# Altium schematic symbol library Capacitors$.SchLib: 601 symbols (part 1 of 4)
Pins are listed as number, name and electrical type; pins without a type are passive.

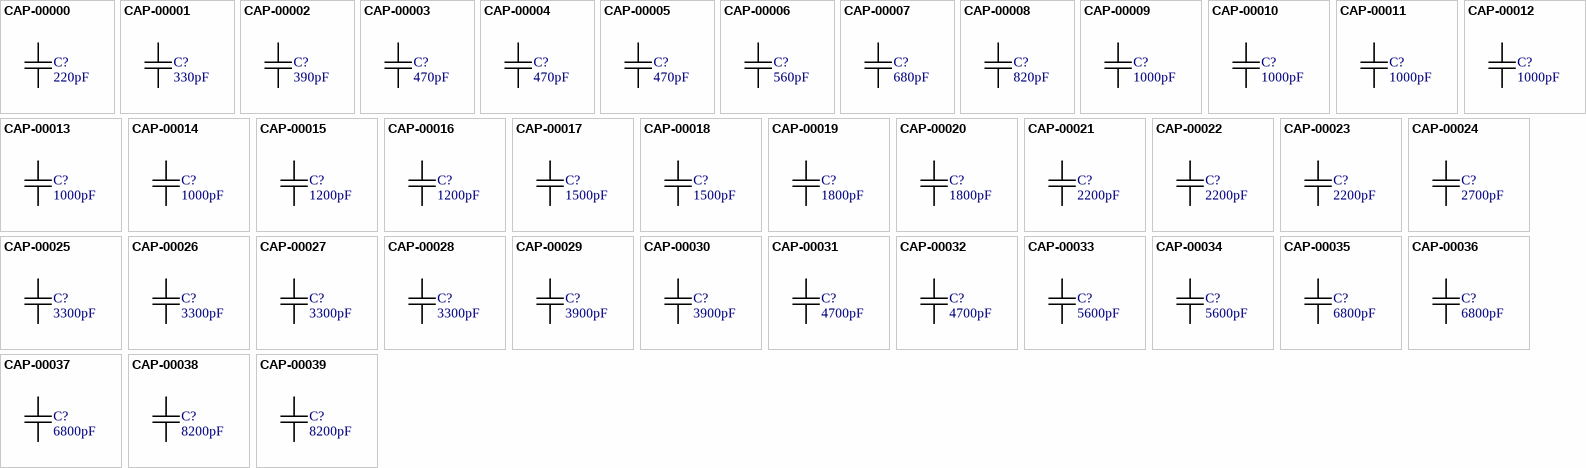
[diagram p0: symbols CAP-00000 to CAP-00039]

## CAP-00000
designator C?, comment 220pF
CAP, 220pF, 10%, 50V, X7R, 0805; Part Number: CAP-00000; Manufacturer: Murata; Manufacturer PN: GRM216R71H221KA01D; Capacitance: 220pF; Tolerance: 10%; Voltage Rating: 50V; Type: X7R
footprint chip_0805
pins: 1, 2

## CAP-00001
designator C?, comment 330pF
CAP, 330pF, 10%, 50V, X7R, 0805; Part Number: CAP-00001; Manufacturer: Murata; Manufacturer PN: GRM216R71H331KA01D; Capacitance: 330pF; Tolerance: 10%; Voltage Rating: 50V; Type: X7R
footprint chip_0805
pins: 1, 2

## CAP-00002
designator C?, comment 390pF
CAP, 390pF, 10%, 50V, X7R, 0805; Part Number: CAP-00002; Manufacturer: Murata; Manufacturer PN: GRM216R71H391KA01D; Capacitance: 390pF; Tolerance: 10%; Voltage Rating: 50V; Type: X7R
footprint chip_0805
pins: 1, 2

## CAP-00003
designator C?, comment 470pF
CAP, 470pF, 10%, 50V, X7R, 0805; Part Number: CAP-00003; Manufacturer: Murata; Manufacturer PN: GRM216R71H471KA01D; Capacitance: 470pF; Tolerance: 10%; Voltage Rating: 50V; Type: X7R
footprint chip_0805
pins: 1, 2

## CAP-00004
designator C?, comment 470pF
CAP, 470pF, 10%, 25V, X7R, 0805; Part Number: CAP-00004; Manufacturer: Murata; Manufacturer PN: GRM216R71E471KA01D; Capacitance: 470pF; Tolerance: 10%; Voltage Rating: 25V; Type: X7R
footprint chip_0805
pins: 1, 2

## CAP-00005
designator C?, comment 470pF
CAP, 470pF, 10%, 50V, X7R, 0805; Part Number: CAP-00005; Manufacturer: Murata; Manufacturer PN: GRM216R71H471KA01J; Capacitance: 470pF; Tolerance: 10%; Voltage Rating: 50V; Type: X7R
footprint chip_0805
pins: 1, 2

## CAP-00006
designator C?, comment 560pF
CAP, 560pF, 10%, 50V, X7R, 0805; Part Number: CAP-00006; Manufacturer: Murata; Manufacturer PN: GRM216R71H561KA01D; Capacitance: 560pF; Tolerance: 10%; Voltage Rating: 50V; Type: X7R
footprint chip_0805
pins: 1, 2

## CAP-00007
designator C?, comment 680pF
CAP, 680pF, 10%, 50V, X7R, 0805; Part Number: CAP-00007; Manufacturer: Murata; Manufacturer PN: GRM216R71H681KA01D; Capacitance: 680pF; Tolerance: 10%; Voltage Rating: 50V; Type: X7R
footprint chip_0805
pins: 1, 2

## CAP-00008
designator C?, comment 820pF
CAP, 820pF, 10%, 50V, X7R, 0805; Part Number: CAP-00008; Manufacturer: Murata; Manufacturer PN: GRM216R71H821KA01D; Capacitance: 820pF; Tolerance: 10%; Voltage Rating: 50V; Type: X7R
footprint chip_0805
pins: 1, 2

## CAP-00009
designator C?, comment 1000pF
CAP, 1000pF, 10%, 50V, X7R, 0805; Part Number: CAP-00009; Manufacturer: Murata; Manufacturer PN: GRM216R71H102KA01D; Capacitance: 1000pF; Tolerance: 10%; Voltage Rating: 50V; Type: X7R
footprint chip_0805
pins: 1, 2

## CAP-00010
designator C?, comment 1000pF
CAP, 1000pF, 10%, 100V, X7R, 0805; Part Number: CAP-00010; Manufacturer: Murata; Manufacturer PN: GRM219R72A102KA01D; Capacitance: 1000pF; Tolerance: 10%; Voltage Rating: 100V; Type: X7R
footprint chip_0805
pins: 1, 2

## CAP-00011
designator C?, comment 1000pF
CAP, 1000pF, 10%, 100V, X7R, 0805; Part Number: CAP-00011; Manufacturer: Murata; Manufacturer PN: GRM219R72A102KA01J; Capacitance: 1000pF; Tolerance: 10%; Voltage Rating: 100V; Type: X7R
footprint chip_0805
pins: 1, 2

## CAP-00012
designator C?, comment 1000pF
CAP, 1000pF, 10%, 25V, X7R, 0805; Part Number: CAP-00012; Manufacturer: Murata; Manufacturer PN: GRM216R71E102KA01D; Capacitance: 1000pF; Tolerance: 10%; Voltage Rating: 25V; Type: X7R
footprint chip_0805
pins: 1, 2

## CAP-00013
designator C?, comment 1000pF
CAP, 1000pF, 10%, 50V, X7R, 0805; Part Number: CAP-00013; Manufacturer: Murata; Manufacturer PN: GRM216R71H102KA01J; Capacitance: 1000pF; Tolerance: 10%; Voltage Rating: 50V; Type: X7R
footprint chip_0805
pins: 1, 2

## CAP-00014
designator C?, comment 1000pF
CAP, 1000pF, 10%, 250V, X7R, 0805; Part Number: CAP-00014; Manufacturer: Murata; Manufacturer PN: GRM21AR72E102KW01D; Capacitance: 1000pF; Tolerance: 10%; Voltage Rating: 250V; Type: X7R
footprint chip_0805
pins: 1, 2

## CAP-00015
designator C?, comment 1200pF
CAP, 1200pF, 10%, 25V, X7R, 0805; Part Number: CAP-00015; Manufacturer: Murata; Manufacturer PN: GRM216R71E122KA01D; Capacitance: 1200pF; Tolerance: 10%; Voltage Rating: 25V; Type: X7R
footprint chip_0805
pins: 1, 2

## CAP-00016
designator C?, comment 1200pF
CAP, 1200pF, 10%, 50V, X7R, 0805; Part Number: CAP-00016; Manufacturer: Murata; Manufacturer PN: GRM216R71H122KA01D; Capacitance: 1200pF; Tolerance: 10%; Voltage Rating: 50V; Type: X7R
footprint chip_0805
pins: 1, 2

## CAP-00017
designator C?, comment 1500pF
CAP, 1500pF, 10%, 250V, X7R, 0805; Part Number: CAP-00017; Manufacturer: Murata; Manufacturer PN: GRM21AR72E152KW01D; Capacitance: 1500pF; Tolerance: 10%; Voltage Rating: 250V; Type: X7R
footprint chip_0805
pins: 1, 2

## CAP-00018
designator C?, comment 1500pF
CAP, 1500pF, 10%, 50V, X7R, 0805; Part Number: CAP-00018; Manufacturer: Murata; Manufacturer PN: GRM216R71H152KA01D; Capacitance: 1500pF; Tolerance: 10%; Voltage Rating: 50V; Type: X7R
footprint chip_0805
pins: 1, 2

## CAP-00019
designator C?, comment 1800pF
CAP, 1800pF, 10%, 25V, X7R, 0805; Part Number: CAP-00019; Manufacturer: Murata; Manufacturer PN: GRM216R71E182KA01D; Capacitance: 1800pF; Tolerance: 10%; Voltage Rating: 25V; Type: X7R
footprint chip_0805
pins: 1, 2

## CAP-00020
designator C?, comment 1800pF
CAP, 1800pF, 10%, 50V, X7R, 0805; Part Number: CAP-00020; Manufacturer: Murata; Manufacturer PN: GRM216R71H182KA01D; Capacitance: 1800pF; Tolerance: 10%; Voltage Rating: 50V; Type: X7R
footprint chip_0805
pins: 1, 2

## CAP-00021
designator C?, comment 2200pF
CAP, 2200pF, 10%, 50V, X7R, 0805; Part Number: CAP-00021; Manufacturer: Murata; Manufacturer PN: GRM216R71H222KA01D; Capacitance: 2200pF; Tolerance: 10%; Voltage Rating: 50V; Type: X7R
footprint chip_0805
pins: 1, 2

## CAP-00022
designator C?, comment 2200pF
CAP, 2200pF, 10%, 250V, X7R, 0805; Part Number: CAP-00022; Manufacturer: Murata; Manufacturer PN: GRM21AR72E222KW01D; Capacitance: 2200pF; Tolerance: 10%; Voltage Rating: 250V; Type: X7R
footprint chip_0805
pins: 1, 2

## CAP-00023
designator C?, comment 2200pF
CAP, 2200pF, 10%, 100V, X7R, 0805; Part Number: CAP-00023; Manufacturer: Murata; Manufacturer PN: GRM219R72A222KA01D; Capacitance: 2200pF; Tolerance: 10%; Voltage Rating: 100V; Type: X7R
footprint chip_0805
pins: 1, 2

## CAP-00024
designator C?, comment 2700pF
CAP, 2700pF, 10%, 50V, X7R, 0805; Part Number: CAP-00024; Manufacturer: Murata; Manufacturer PN: GRM216R71H272KA01D; Capacitance: 2700pF; Tolerance: 10%; Voltage Rating: 50V; Type: X7R
footprint chip_0805
pins: 1, 2

## CAP-00025
designator C?, comment 3300pF
CAP, 3300pF, 10%, 250V, X7R, 0805; Part Number: CAP-00025; Manufacturer: Murata; Manufacturer PN: GRM21AR72E332KW01D; Capacitance: 3300pF; Tolerance: 10%; Voltage Rating: 250V; Type: X7R
footprint chip_0805
pins: 1, 2

## CAP-00026
designator C?, comment 3300pF
CAP, 3300pF, 10%, 100V, X7R, 0805; Part Number: CAP-00026; Manufacturer: Murata; Manufacturer PN: GRM219R72A332KA01D; Capacitance: 3300pF; Tolerance: 10%; Voltage Rating: 100V; Type: X7R
footprint chip_0805
pins: 1, 2

## CAP-00027
designator C?, comment 3300pF
CAP, 3300pF, 10%, 25V, X7R, 0805; Part Number: CAP-00027; Manufacturer: Murata; Manufacturer PN: GRM216R71E332KA01D; Capacitance: 3300pF; Tolerance: 10%; Voltage Rating: 25V; Type: X7R
footprint chip_0805
pins: 1, 2

## CAP-00028
designator C?, comment 3300pF
CAP, 3300pF, 10%, 50V, X7R, 0805; Part Number: CAP-00028; Manufacturer: Murata; Manufacturer PN: GRM216R71H332KA01D; Capacitance: 3300pF; Tolerance: 10%; Voltage Rating: 50V; Type: X7R
footprint chip_0805
pins: 1, 2

## CAP-00029
designator C?, comment 3900pF
CAP, 3900pF, 10%, 100V, X7R, 0805; Part Number: CAP-00029; Manufacturer: Murata; Manufacturer PN: GRM219R72A392KA01D; Capacitance: 3900pF; Tolerance: 10%; Voltage Rating: 100V; Type: X7R
footprint chip_0805
pins: 1, 2

## CAP-00030
designator C?, comment 3900pF
CAP, 3900pF, 10%, 50V, X7R, 0805; Part Number: CAP-00030; Manufacturer: Murata; Manufacturer PN: GRM216R71H392KA01D; Capacitance: 3900pF; Tolerance: 10%; Voltage Rating: 50V; Type: X7R
footprint chip_0805
pins: 1, 2

## CAP-00031
designator C?, comment 4700pF
CAP, 4700pF, 10%, 250V, X7R, 0805; Part Number: CAP-00031; Manufacturer: Murata; Manufacturer PN: GRM21AR72E472KW01D; Capacitance: 4700pF; Tolerance: 10%; Voltage Rating: 250V; Type: X7R
footprint chip_0805
pins: 1, 2

## CAP-00032
designator C?, comment 4700pF
CAP, 4700pF, 10%, 100V, X7R, 0805; Part Number: CAP-00032; Manufacturer: Murata; Manufacturer PN: GRM219R72A472KA01D; Capacitance: 4700pF; Tolerance: 10%; Voltage Rating: 100V; Type: X7R
footprint chip_0805
pins: 1, 2

## CAP-00033
designator C?, comment 5600pF
CAP, 5600pF, 10%, 50V, X7R, 0805; Part Number: CAP-00033; Manufacturer: Murata; Manufacturer PN: GRM216R71H562KA01D; Capacitance: 5600pF; Tolerance: 10%; Voltage Rating: 50V; Type: X7R
footprint chip_0805
pins: 1, 2

## CAP-00034
designator C?, comment 5600pF
CAP, 5600pF, 10%, 100V, X7R, 0805; Part Number: CAP-00034; Manufacturer: Murata; Manufacturer PN: GRM219R72A562KA01D; Capacitance: 5600pF; Tolerance: 10%; Voltage Rating: 100V; Type: X7R
footprint chip_0805
pins: 1, 2

## CAP-00035
designator C?, comment 6800pF
CAP, 6800pF, 10%, 50V, X7R, 0805; Part Number: CAP-00035; Manufacturer: Murata; Manufacturer PN: GRM216R71H682KA01D; Capacitance: 6800pF; Tolerance: 10%; Voltage Rating: 50V; Type: X7R
footprint chip_0805
pins: 1, 2

## CAP-00036
designator C?, comment 6800pF
CAP, 6800pF, 10%, 100V, X7R, 0805; Part Number: CAP-00036; Manufacturer: Murata; Manufacturer PN: GRM219R72A682KA01D; Capacitance: 6800pF; Tolerance: 10%; Voltage Rating: 100V; Type: X7R
footprint chip_0805
pins: 1, 2

## CAP-00037
designator C?, comment 6800pF
CAP, 6800pF, 10%, 250V, X7R, 0805; Part Number: CAP-00037; Manufacturer: Murata; Manufacturer PN: GRM21AR72E682KW01D; Capacitance: 6800pF; Tolerance: 10%; Voltage Rating: 250V; Type: X7R
footprint chip_0805
pins: 1, 2

## CAP-00038
designator C?, comment 8200pF
CAP, 8200pF, 10%, 100V, X7R, 0805; Part Number: CAP-00038; Manufacturer: Murata; Manufacturer PN: GRM21BR72A822KA01L; Capacitance: 8200pF; Tolerance: 10%; Voltage Rating: 100V; Type: X7R
footprint chip_0805
pins: 1, 2

## CAP-00039
designator C?, comment 8200pF
CAP, 8200pF, 10%, 50V, X7R, 0805; Part Number: CAP-00039; Manufacturer: Murata; Manufacturer PN: GRM216R71H822KA01D; Capacitance: 8200pF; Tolerance: 10%; Voltage Rating: 50V; Type: X7R
footprint chip_0805
pins: 1, 2

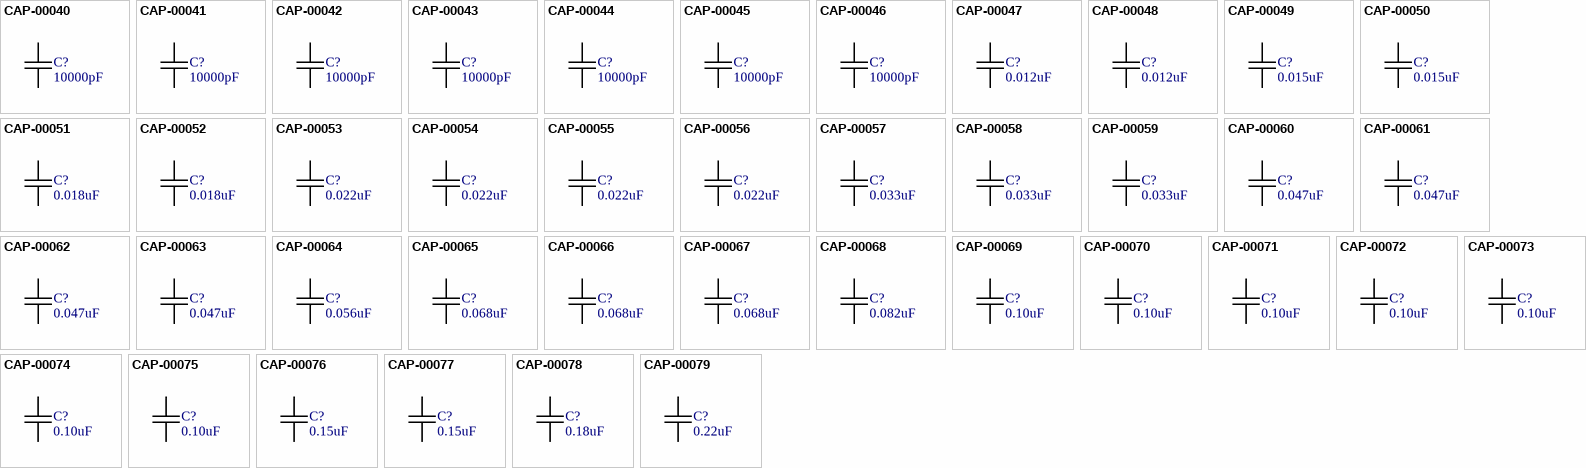
[diagram p1: symbols CAP-00040 to CAP-00079]

## CAP-00040
designator C?, comment 10000pF
CAP, 10000pF, 10%, 50V, X7R, 0805; Part Number: CAP-00040; Manufacturer: Murata; Manufacturer PN: GRM216R71H103KA01D; Capacitance: 10000pF; Tolerance: 10%; Voltage Rating: 50V; Type: X7R
footprint chip_0805
pins: 1, 2

## CAP-00041
designator C?, comment 10000pF
CAP, 10000pF, 10%, 250V, X7R, 0805; Part Number: CAP-00041; Manufacturer: Murata; Manufacturer PN: GRM21BR72E103KW03L; Capacitance: 10000pF; Tolerance: 10%; Voltage Rating: 250V; Type: X7R
footprint chip_0805
pins: 1, 2

## CAP-00042
designator C?, comment 10000pF
CAP, 10000pF, 10%, 100V, X7R, 0805; Part Number: CAP-00042; Manufacturer: Murata; Manufacturer PN: GRM21BR72A103KA01L; Capacitance: 10000pF; Tolerance: 10%; Voltage Rating: 100V; Type: X7R
footprint chip_0805
pins: 1, 2

## CAP-00043
designator C?, comment 10000pF
CAP, 10000pF, 10%, 100V, X7R, 0805; Part Number: CAP-00043; Manufacturer: Murata; Manufacturer PN: GRM21BR72A103KA01K; Capacitance: 10000pF; Tolerance: 10%; Voltage Rating: 100V; Type: X7R
footprint chip_0805
pins: 1, 2

## CAP-00044
designator C?, comment 10000pF
CAP, 10000pF, 10%, 50V, X7R, 0805; Part Number: CAP-00044; Manufacturer: Murata; Manufacturer PN: GRM216R71H103KA01J; Capacitance: 10000pF; Tolerance: 10%; Voltage Rating: 50V; Type: X7R
footprint chip_0805
pins: 1, 2

## CAP-00045
designator C?, comment 10000pF
CAP, 10000pF, 10%, 25V, X7R, 0805; Part Number: CAP-00045; Manufacturer: Murata; Manufacturer PN: GRM216R71E103KA01D; Capacitance: 10000pF; Tolerance: 10%; Voltage Rating: 25V; Type: X7R
footprint chip_0805
pins: 1, 2

## CAP-00046
designator C?, comment 10000pF
CAP, 10000pF, 10%, 200V, X7R, 0805; Part Number: CAP-00046; Manufacturer: Murata; Manufacturer PN: GRM21BR72D103KW03L; Capacitance: 10000pF; Tolerance: 10%; Voltage Rating: 200V; Type: X7R
footprint chip_0805
pins: 1, 2

## CAP-00047
designator C?, comment 0.012uF
CAP, 0.012uF, 10%, 100V, X7R, 0805; Part Number: CAP-00047; Manufacturer: Murata; Manufacturer PN: GRM21BR72A123KA01L; Capacitance: 0.012uF; Tolerance: 10%; Voltage Rating: 100V; Type: X7R
footprint chip_0805
pins: 1, 2

## CAP-00048
designator C?, comment 0.012uF
CAP, 0.012uF, 10%, 50V, X7R, 0805; Part Number: CAP-00048; Manufacturer: Murata; Manufacturer PN: GRM216R71H123KA01D; Capacitance: 0.012uF; Tolerance: 10%; Voltage Rating: 50V; Type: X7R
footprint chip_0805
pins: 1, 2

## CAP-00049
designator C?, comment 0.015uF
CAP, 0.015uF, 10%, 100V, X7R, 0805; Part Number: CAP-00049; Manufacturer: Murata; Manufacturer PN: GRM21BR72A153KA01L; Capacitance: 0.015uF; Tolerance: 10%; Voltage Rating: 100V; Type: X7R
footprint chip_0805
pins: 1, 2

## CAP-00050
designator C?, comment 0.015uF
CAP, 0.015uF, 10%, 50V, X7R, 0805; Part Number: CAP-00050; Manufacturer: Murata; Manufacturer PN: GRM216R71H153KA01D; Capacitance: 0.015uF; Tolerance: 10%; Voltage Rating: 50V; Type: X7R
footprint chip_0805
pins: 1, 2

## CAP-00051
designator C?, comment 0.018uF
CAP, 0.018uF, 10%, 100V, X7R, 0805; Part Number: CAP-00051; Manufacturer: Murata; Manufacturer PN: GRM21BR72A183KA01L; Capacitance: 0.018uF; Tolerance: 10%; Voltage Rating: 100V; Type: X7R
footprint chip_0805
pins: 1, 2

## CAP-00052
designator C?, comment 0.018uF
CAP, 0.018uF, 10%, 50V, X7R, 0805; Part Number: CAP-00052; Manufacturer: Murata; Manufacturer PN: GRM216R71H183KA01D; Capacitance: 0.018uF; Tolerance: 10%; Voltage Rating: 50V; Type: X7R
footprint chip_0805
pins: 1, 2

## CAP-00053
designator C?, comment 0.022uF
CAP, 0.022uF, 10%, 50V, X7R, 0805; Part Number: CAP-00053; Manufacturer: Murata; Manufacturer PN: GRM216R71H223KA01D; Capacitance: 0.022uF; Tolerance: 10%; Voltage Rating: 50V; Type: X7R
footprint chip_0805
pins: 1, 2

## CAP-00054
designator C?, comment 0.022uF
CAP, 0.022uF, 10%, 100V, X7R, 0805; Part Number: CAP-00054; Manufacturer: Murata; Manufacturer PN: GRM21BR72A223KA01L; Capacitance: 0.022uF; Tolerance: 10%; Voltage Rating: 100V; Type: X7R
footprint chip_0805
pins: 1, 2

## CAP-00055
designator C?, comment 0.022uF
CAP, 0.022uF, 10%, 50V, X7R, 0805; Part Number: CAP-00055; Manufacturer: Murata; Manufacturer PN: GRM216R71H223KA01J; Capacitance: 0.022uF; Tolerance: 10%; Voltage Rating: 50V; Type: X7R
footprint chip_0805
pins: 1, 2

## CAP-00056
designator C?, comment 0.022uF
CAP, 0.022uF, 10%, 25V, X7R, 0805; Part Number: CAP-00056; Manufacturer: Murata; Manufacturer PN: GRM216R71E223KA01D; Capacitance: 0.022uF; Tolerance: 10%; Voltage Rating: 25V; Type: X7R
footprint chip_0805
pins: 1, 2

## CAP-00057
designator C?, comment 0.033uF
CAP, 0.033uF, 10%, 25V, X7R, 0805; Part Number: CAP-00057; Manufacturer: Murata; Manufacturer PN: GRM216R71E333KA01D; Capacitance: 0.033uF; Tolerance: 10%; Voltage Rating: 25V; Type: X7R
footprint chip_0805
pins: 1, 2

## CAP-00058
designator C?, comment 0.033uF
CAP, 0.033uF, 10%, 50V, X7R, 0805; Part Number: CAP-00058; Manufacturer: Murata; Manufacturer PN: GRM219R71H333KA01D; Capacitance: 0.033uF; Tolerance: 10%; Voltage Rating: 50V; Type: X7R
footprint chip_0805
pins: 1, 2

## CAP-00059
designator C?, comment 0.033uF
CAP, 0.033uF, 10%, 100V, X7R, 0805; Part Number: CAP-00059; Manufacturer: Murata; Manufacturer PN: GRM21BR72A333KA01L; Capacitance: 0.033uF; Tolerance: 10%; Voltage Rating: 100V; Type: X7R
footprint chip_0805
pins: 1, 2

## CAP-00060
designator C?, comment 0.047uF
CAP, 0.047uF, 10%, 25V, X7R, 0805; Part Number: CAP-00060; Manufacturer: Murata; Manufacturer PN: GRM219R71E473KA01D; Capacitance: 0.047uF; Tolerance: 10%; Voltage Rating: 25V; Type: X7R
footprint chip_0805
pins: 1, 2

## CAP-00061
designator C?, comment 0.047uF
CAP, 0.047uF, 10%, 50V, X7R, 0805; Part Number: CAP-00061; Manufacturer: Murata; Manufacturer PN: GRM21BR71H473KA01L; Capacitance: 0.047uF; Tolerance: 10%; Voltage Rating: 50V; Type: X7R
footprint chip_0805
pins: 1, 2

## CAP-00062
designator C?, comment 0.047uF
CAP, 0.047uF, 10%, 100V, X7R, 0805; Part Number: CAP-00062; Manufacturer: Murata; Manufacturer PN: GRM21BR72A473KA01L; Capacitance: 0.047uF; Tolerance: 10%; Voltage Rating: 100V; Type: X7R
footprint chip_0805
pins: 1, 2

## CAP-00063
designator C?, comment 0.047uF
CAP, 0.047uF, 10%, 50V, X7R, 0805; Part Number: CAP-00063; Manufacturer: Murata; Manufacturer PN: GRM21BR71H473KA01K; Capacitance: 0.047uF; Tolerance: 10%; Voltage Rating: 50V; Type: X7R
footprint chip_0805
pins: 1, 2

## CAP-00064
designator C?, comment 0.056uF
CAP, 0.056uF, 10%, 50V, X7R, 0805; Part Number: CAP-00064; Manufacturer: Murata; Manufacturer PN: GRM21BR71H563KA01L; Capacitance: 0.056uF; Tolerance: 10%; Voltage Rating: 50V; Type: X7R
footprint chip_0805
pins: 1, 2

## CAP-00065
designator C?, comment 0.068uF
CAP, 0.068uF, 10%, 50V, X7R, 0805; Part Number: CAP-00065; Manufacturer: Murata; Manufacturer PN: GRM21BR71H683KA01L; Capacitance: 0.068uF; Tolerance: 10%; Voltage Rating: 50V; Type: X7R
footprint chip_0805
pins: 1, 2

## CAP-00066
designator C?, comment 0.068uF
CAP, 0.068uF, 10%, 16V, X7R, 0805; Part Number: CAP-00066; Manufacturer: Murata; Manufacturer PN: GRM219R71C683KA01D; Capacitance: 0.068uF; Tolerance: 10%; Voltage Rating: 16V; Type: X7R
footprint chip_0805
pins: 1, 2

## CAP-00067
designator C?, comment 0.068uF
CAP, 0.068uF, 10%, 25V, X7R, 0805; Part Number: CAP-00067; Manufacturer: Murata; Manufacturer PN: GRM219R71E683KA01D; Capacitance: 0.068uF; Tolerance: 10%; Voltage Rating: 25V; Type: X7R
footprint chip_0805
pins: 1, 2

## CAP-00068
designator C?, comment 0.082uF
CAP, 0.082uF, 10%, 50V, X7R, 0805; Part Number: CAP-00068; Manufacturer: Murata; Manufacturer PN: GRM21BR71H823KA01L; Capacitance: 0.082uF; Tolerance: 10%; Voltage Rating: 50V; Type: X7R
footprint chip_0805
pins: 1, 2

## CAP-00069
designator C?, comment 0.10uF
CAP, 0.10uF, 10%, 16V, X7R, 0805; Part Number: CAP-00069; Manufacturer: Murata; Manufacturer PN: GRM219R71C104KA01D; Capacitance: 0.10uF; Tolerance: 10%; Voltage Rating: 16V; Type: X7R
footprint chip_0805
pins: 1, 2

## CAP-00070
designator C?, comment 0.10uF
CAP, 0.10uF, 10%, 50V, X7R, 0805; Part Number: CAP-00070; Manufacturer: Murata; Manufacturer PN: GRM21BR71H104KA01L; Capacitance: 0.10uF; Tolerance: 10%; Voltage Rating: 50V; Type: X7R
footprint chip_0805
pins: 1, 2

## CAP-00071
designator C?, comment 0.10uF
CAP, 0.10uF, 10%, 25V, X7R, 0805; Part Number: CAP-00071; Manufacturer: Murata; Manufacturer PN: GRM21BR71E104KA01L; Capacitance: 0.10uF; Tolerance: 10%; Voltage Rating: 25V; Type: X7R
footprint chip_0805
pins: 1, 2

## CAP-00072
designator C?, comment 0.10uF
CAP, 0.10uF, 10%, 50V, X7R, 0805; Part Number: CAP-00072; Manufacturer: Murata; Manufacturer PN: GRM21BR71H104KA01K; Capacitance: 0.10uF; Tolerance: 10%; Voltage Rating: 50V; Type: X7R
footprint chip_0805
pins: 1, 2

## CAP-00073
designator C?, comment 0.10uF
CAP, 0.10uF, 10%, 100V, X7R, 0805; Part Number: CAP-00073; Manufacturer: Murata; Manufacturer PN: GRM21BR72A104KAC4L; Capacitance: 0.10uF; Tolerance: 10%; Voltage Rating: 100V; Type: X7R
footprint chip_0805
pins: 1, 2

## CAP-00074
designator C?, comment 0.10uF
CAP, 0.10uF, 10%, 25V, X7R, 0805; Part Number: CAP-00074; Manufacturer: Murata; Manufacturer PN: GRM21BR71E104KA01K; Capacitance: 0.10uF; Tolerance: 10%; Voltage Rating: 25V; Type: X7R
footprint chip_0805
pins: 1, 2

## CAP-00075
designator C?, comment 0.10uF
CAP, 0.10uF, 10%, 25V, X7R, 0805; Part Number: CAP-00075; Manufacturer: Murata; Manufacturer PN: GRM219R71E104KA01D; Capacitance: 0.10uF; Tolerance: 10%; Voltage Rating: 25V; Type: X7R
footprint chip_0805
pins: 1, 2

## CAP-00076
designator C?, comment 0.15uF
CAP, 0.15uF, 10%, 25V, X7R, 0805; Part Number: CAP-00076; Manufacturer: Murata; Manufacturer PN: GRM21BR71E154KA01L; Capacitance: 0.15uF; Tolerance: 10%; Voltage Rating: 25V; Type: X7R
footprint chip_0805
pins: 1, 2

## CAP-00077
designator C?, comment 0.15uF
CAP, 0.15uF, 10%, 50V, X7R, 0805; Part Number: CAP-00077; Manufacturer: Murata; Manufacturer PN: GRM21BR71H154KA01L; Capacitance: 0.15uF; Tolerance: 10%; Voltage Rating: 50V; Type: X7R
footprint chip_0805
pins: 1, 2

## CAP-00078
designator C?, comment 0.18uF
CAP, 0.18uF, 10%, 50V, X7R, 0805; Part Number: CAP-00078; Manufacturer: Murata; Manufacturer PN: GRM21BR71H184KA01L; Capacitance: 0.18uF; Tolerance: 10%; Voltage Rating: 50V; Type: X7R
footprint chip_0805
pins: 1, 2

## CAP-00079
designator C?, comment 0.22uF
CAP, 0.22uF, 10%, 50V, X7R, 0805; Part Number: CAP-00079; Manufacturer: Murata; Manufacturer PN: GRM21BR71H224KA01L; Capacitance: 0.22uF; Tolerance: 10%; Voltage Rating: 50V; Type: X7R
footprint chip_0805
pins: 1, 2

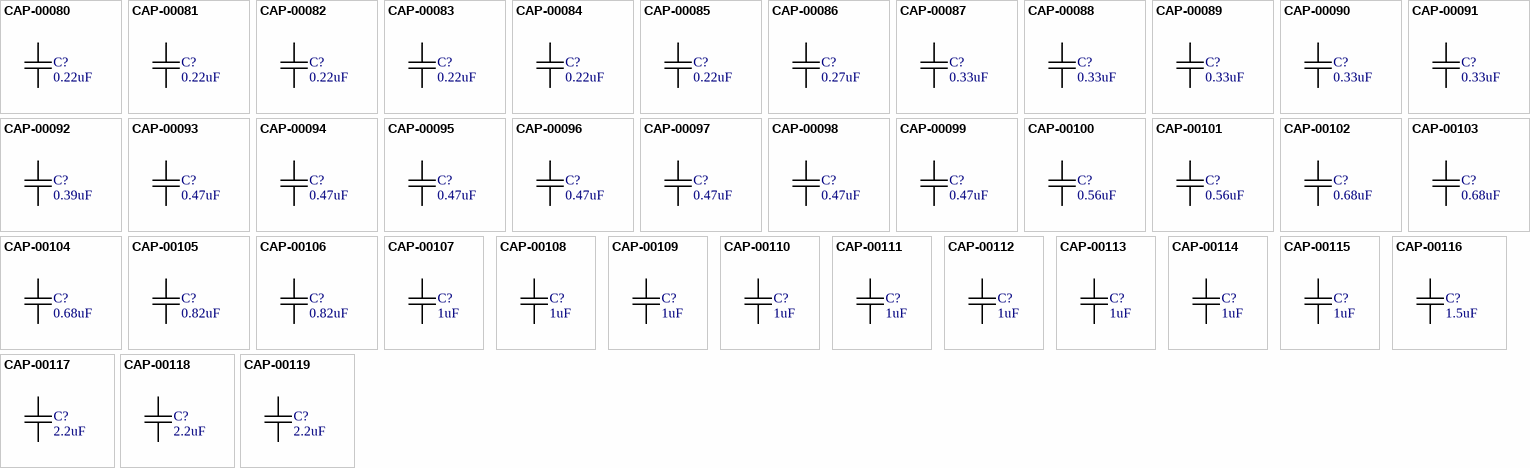
[diagram p2: symbols CAP-00080 to CAP-00119]

## CAP-00080
designator C?, comment 0.22uF
CAP, 0.22uF, 10%, 100V, X7R, 0805; Part Number: CAP-00080; Manufacturer: Murata; Manufacturer PN: GRM21AR72A224KAC5K; Capacitance: 0.22uF; Tolerance: 10%; Voltage Rating: 100V; Type: X7R
footprint chip_0805
pins: 1, 2

## CAP-00081
designator C?, comment 0.22uF
CAP, 0.22uF, 10%, 16V, X7R, 0805; Part Number: CAP-00081; Manufacturer: Murata; Manufacturer PN: GRM219R71C224KA01D; Capacitance: 0.22uF; Tolerance: 10%; Voltage Rating: 16V; Type: X7R
footprint chip_0805
pins: 1, 2

## CAP-00082
designator C?, comment 0.22uF
CAP, 0.22uF, 10%, 25V, X7R, 0805; Part Number: CAP-00082; Manufacturer: Murata; Manufacturer PN: GRM219R71E224KA01D; Capacitance: 0.22uF; Tolerance: 10%; Voltage Rating: 25V; Type: X7R
footprint chip_0805
pins: 1, 2

## CAP-00083
designator C?, comment 0.22uF
CAP, 0.22uF, 10%, 100V, X7R, 0805; Part Number: CAP-00083; Manufacturer: Murata; Manufacturer PN: GRM21AR72A224KAC5L; Capacitance: 0.22uF; Tolerance: 10%; Voltage Rating: 100V; Type: X7R
footprint chip_0805
pins: 1, 2

## CAP-00084
designator C?, comment 0.22uF
CAP, 0.22uF, 10%, 25V, X7R, 0805; Part Number: CAP-00084; Manufacturer: Murata; Manufacturer PN: GRM21BR71E224KA01L; Capacitance: 0.22uF; Tolerance: 10%; Voltage Rating: 25V; Type: X7R
footprint chip_0805
pins: 1, 2

## CAP-00085
designator C?, comment 0.22uF
CAP, 0.22uF, 10%, 50V, X7R, 0805; Part Number: CAP-00085; Manufacturer: Murata; Manufacturer PN: GRM21BR71H224KA01K; Capacitance: 0.22uF; Tolerance: 10%; Voltage Rating: 50V; Type: X7R
footprint chip_0805
pins: 1, 2

## CAP-00086
designator C?, comment 0.27uF
CAP, 0.27uF, 10%, 25V, X7R, 0805; Part Number: CAP-00086; Manufacturer: Murata; Manufacturer PN: GRM219R71E274KA01D; Capacitance: 0.27uF; Tolerance: 10%; Voltage Rating: 25V; Type: X7R
footprint chip_0805
pins: 1, 2

## CAP-00087
designator C?, comment 0.33uF
CAP, 0.33uF, 10%, 50V, X7R, 0805; Part Number: CAP-00087; Manufacturer: Murata; Manufacturer PN: GRM219R71H334KA88D; Capacitance: 0.33uF; Tolerance: 10%; Voltage Rating: 50V; Type: X7R
footprint chip_0805
pins: 1, 2

## CAP-00088
designator C?, comment 0.33uF
CAP, 0.33uF, 10%, 25V, X7R, 0805; Part Number: CAP-00088; Manufacturer: Murata; Manufacturer PN: GRM21BR71E334KA01L; Capacitance: 0.33uF; Tolerance: 10%; Voltage Rating: 25V; Type: X7R
footprint chip_0805
pins: 1, 2

## CAP-00089
designator C?, comment 0.33uF
CAP, 0.33uF, 10%, 100V, X7R, 0805; Part Number: CAP-00089; Manufacturer: Murata; Manufacturer PN: GRM21AR72A334KAC5L; Capacitance: 0.33uF; Tolerance: 10%; Voltage Rating: 100V; Type: X7R
footprint chip_0805
pins: 1, 2

## CAP-00090
designator C?, comment 0.33uF
CAP, 0.33uF, 10%, 16V, X7R, 0805; Part Number: CAP-00090; Manufacturer: Murata; Manufacturer PN: GRM21BR71C334KA01L; Capacitance: 0.33uF; Tolerance: 10%; Voltage Rating: 16V; Type: X7R
footprint chip_0805
pins: 1, 2

## CAP-00091
designator C?, comment 0.33uF
CAP, 0.33uF, 10%, 50V, X7R, 0805; Part Number: CAP-00091; Manufacturer: Murata; Manufacturer PN: GRM219R71H334KA88J; Capacitance: 0.33uF; Tolerance: 10%; Voltage Rating: 50V; Type: X7R
footprint chip_0805
pins: 1, 2

## CAP-00092
designator C?, comment 0.39uF
CAP, 0.39uF, 10%, 25V, X7R, 0805; Part Number: CAP-00092; Manufacturer: Murata; Manufacturer PN: GRM21BR71E394KA01L; Capacitance: 0.39uF; Tolerance: 10%; Voltage Rating: 25V; Type: X7R
footprint chip_0805
pins: 1, 2

## CAP-00093
designator C?, comment 0.47uF
CAP, 0.47uF, 10%, 50V, X7R, 0805; Part Number: CAP-00093; Manufacturer: Murata; Manufacturer PN: GRM21BR71H474KA88L; Capacitance: 0.47uF; Tolerance: 10%; Voltage Rating: 50V; Type: X7R
footprint chip_0805
pins: 1, 2

## CAP-00094
designator C?, comment 0.47uF
CAP, 0.47uF, 10%, 100V, X7R, 0805; Part Number: CAP-00094; Manufacturer: Murata; Manufacturer PN: GRM21BR72A474KA73L; Capacitance: 0.47uF; Tolerance: 10%; Voltage Rating: 100V; Type: X7R
footprint chip_0805
pins: 1, 2

## CAP-00095
designator C?, comment 0.47uF
CAP, 0.47uF, 10%, 25V, X7R, 0805; Part Number: CAP-00095; Manufacturer: Murata; Manufacturer PN: GRM219R71E474KA88D; Capacitance: 0.47uF; Tolerance: 10%; Voltage Rating: 25V; Type: X7R
footprint chip_0805
pins: 1, 2

## CAP-00096
designator C?, comment 0.47uF
CAP, 0.47uF, 10%, 16V, X7R, 0805; Part Number: CAP-00096; Manufacturer: Murata; Manufacturer PN: GRM219R71C474KA01D; Capacitance: 0.47uF; Tolerance: 10%; Voltage Rating: 16V; Type: X7R
footprint chip_0805
pins: 1, 2

## CAP-00097
designator C?, comment 0.47uF
CAP, 0.47uF, 10%, 16V, X7R, 0805; Part Number: CAP-00097; Manufacturer: Murata; Manufacturer PN: GRM21BR71C474KA01L; Capacitance: 0.47uF; Tolerance: 10%; Voltage Rating: 16V; Type: X7R
footprint chip_0805
pins: 1, 2

## CAP-00098
designator C?, comment 0.47uF
CAP, 0.47uF, 10%, 25V, X7R, 0805; Part Number: CAP-00098; Manufacturer: Murata; Manufacturer PN: GRM21BR71E474KA01L; Capacitance: 0.47uF; Tolerance: 10%; Voltage Rating: 25V; Type: X7R
footprint chip_0805
pins: 1, 2

## CAP-00099
designator C?, comment 0.47uF
CAP, 0.47uF, 10%, 25V, X7R, 0805; Part Number: CAP-00099; Manufacturer: Murata; Manufacturer PN: GRM21BR71E474KA01K; Capacitance: 0.47uF; Tolerance: 10%; Voltage Rating: 25V; Type: X7R
footprint chip_0805
pins: 1, 2

## CAP-00100
designator C?, comment 0.56uF
CAP, 0.56uF, 10%, 16V, X7R, 0805; Part Number: CAP-00100; Manufacturer: Murata; Manufacturer PN: GRM219R71C564KA01D; Capacitance: 0.56uF; Tolerance: 10%; Voltage Rating: 16V; Type: X7R
footprint chip_0805
pins: 1, 2

## CAP-00101
designator C?, comment 0.56uF
CAP, 0.56uF, 10%, 25V, X7R, 0805; Part Number: CAP-00101; Manufacturer: Murata; Manufacturer PN: GRM21BR71E564KA88L; Capacitance: 0.56uF; Tolerance: 10%; Voltage Rating: 25V; Type: X7R
footprint chip_0805
pins: 1, 2

## CAP-00102
designator C?, comment 0.68uF
CAP, 0.68uF, 10%, 16V, X7R, 0805; Part Number: CAP-00102; Manufacturer: Murata; Manufacturer PN: GRM219R71C684KA01D; Capacitance: 0.68uF; Tolerance: 10%; Voltage Rating: 16V; Type: X7R
footprint chip_0805
pins: 1, 2

## CAP-00103
designator C?, comment 0.68uF
CAP, 0.68uF, 10%, 25V, X7R, 0805; Part Number: CAP-00103; Manufacturer: Murata; Manufacturer PN: GRM219R71E684KA88D; Capacitance: 0.68uF; Tolerance: 10%; Voltage Rating: 25V; Type: X7R
footprint chip_0805
pins: 1, 2

## CAP-00104
designator C?, comment 0.68uF
CAP, 0.68uF, 10%, 25V, X7R, 0805; Part Number: CAP-00104; Manufacturer: Murata; Manufacturer PN: GRM21BR71E684KA88L; Capacitance: 0.68uF; Tolerance: 10%; Voltage Rating: 25V; Type: X7R
footprint chip_0805
pins: 1, 2

## CAP-00105
designator C?, comment 0.82uF
CAP, 0.82uF, 10%, 16V, X7R, 0805; Part Number: CAP-00105; Manufacturer: Murata; Manufacturer PN: GRM21BR71C824KA01L; Capacitance: 0.82uF; Tolerance: 10%; Voltage Rating: 16V; Type: X7R
footprint chip_0805
pins: 1, 2

## CAP-00106
designator C?, comment 0.82uF
CAP, 0.82uF, 10%, 25V, X7R, 0805; Part Number: CAP-00106; Manufacturer: Murata; Manufacturer PN: GRM219R71E824KA88D; Capacitance: 0.82uF; Tolerance: 10%; Voltage Rating: 25V; Type: X7R
footprint chip_0805
pins: 1, 2

## CAP-00107
designator C?, comment 1uF
CAP, 1uF, 10%, 16V, X7R, 0805; Part Number: CAP-00107; Manufacturer: Murata; Manufacturer PN: GRM21BR71C105KA01L; Capacitance: 1uF; Tolerance: 10%; Voltage Rating: 16V; Type: X7R
footprint chip_0805
pins: 1, 2

## CAP-00108
designator C?, comment 1uF
CAP, 1uF, 10%, 25V, X7R, 0805; Part Number: CAP-00108; Manufacturer: Murata; Manufacturer PN: GRM21BR71E105KA99L; Capacitance: 1uF; Tolerance: 10%; Voltage Rating: 25V; Type: X7R
footprint chip_0805
pins: 1, 2

## CAP-00109
designator C?, comment 1uF
CAP, 1uF, 10%, 50V, X7R, 0805; Part Number: CAP-00109; Manufacturer: Murata; Manufacturer PN: GRM21BR71H105KA12L; Capacitance: 1uF; Tolerance: 10%; Voltage Rating: 50V; Type: X7R
footprint chip_0805
pins: 1, 2

## CAP-00110
designator C?, comment 1uF
CAP, 1uF, 10%, 16V, X7R, 0805; Part Number: CAP-00110; Manufacturer: Murata; Manufacturer PN: GRM21BR71C105KA01K; Capacitance: 1uF; Tolerance: 10%; Voltage Rating: 16V; Type: X7R; Distributor Link: https://www.digikey.com/en/products/detail/murata-electronics/GRM21BR71C105KA01K/2546959
footprint chip_0805
pins: 1, 2

## CAP-00111
designator C?, comment 1uF
CAP, 1uF, 10%, 10V, X7R, 0805; Part Number: CAP-00111; Manufacturer: Murata; Manufacturer PN: GRM21BR71A105KA01L; Capacitance: 1uF; Tolerance: 10%; Voltage Rating: 10V; Type: X7R
footprint chip_0805
pins: 1, 2

## CAP-00112
designator C?, comment 1uF
CAP, 1uF, 10%, 25V, X7R, 0805; Part Number: CAP-00112; Manufacturer: Murata; Manufacturer PN: GRM21BR71E105KA99K; Capacitance: 1uF; Tolerance: 10%; Voltage Rating: 25V; Type: X7R
footprint chip_0805
pins: 1, 2

## CAP-00113
designator C?, comment 1uF
CAP, 1uF, 10%, 25V, X7R, 0805; Part Number: CAP-00113; Manufacturer: Murata; Manufacturer PN: GRM219R71E105KA88D; Capacitance: 1uF; Tolerance: 10%; Voltage Rating: 25V; Type: X7R
footprint chip_0805
pins: 1, 2

## CAP-00114
designator C?, comment 1uF
CAP, 1uF, 10%, 35V, X7R, 0805; Part Number: CAP-00114; Manufacturer: Murata; Manufacturer PN: GRM219R7YA105KA12D; Capacitance: 1uF; Tolerance: 10%; Voltage Rating: 35V; Type: X7R
footprint chip_0805
pins: 1, 2

## CAP-00115
designator C?, comment 1uF
CAP, 1uF, 10%, 10V, X7R, 0805; Part Number: CAP-00115; Manufacturer: Murata; Manufacturer PN: GRM21BR71A105KA01K; Capacitance: 1uF; Tolerance: 10%; Voltage Rating: 10V; Type: X7R
footprint chip_0805
pins: 1, 2

## CAP-00116
designator C?, comment 1.5uF
CAP, 1.5uF, 10%, 25V, X7R, 0805; Part Number: CAP-00116; Manufacturer: Murata; Manufacturer PN: GRM21BR71E155KA88L; Capacitance: 1.5uF; Tolerance: 10%; Voltage Rating: 25V; Type: X7R
footprint chip_0805
pins: 1, 2

## CAP-00117
designator C?, comment 2.2uF
CAP, 2.2uF, 10%, 16V, X7R, 0805; Part Number: CAP-00117; Manufacturer: Murata; Manufacturer PN: GRM21BR71C225KA12L; Capacitance: 2.2uF; Tolerance: 10%; Voltage Rating: 16V; Type: X7R
footprint chip_0805
pins: 1, 2

## CAP-00118
designator C?, comment 2.2uF
CAP, 2.2uF, 10%, 25V, X7R, 0805; Part Number: CAP-00118; Manufacturer: Murata; Manufacturer PN: GRM21BR71E225KA73L; Capacitance: 2.2uF; Tolerance: 10%; Voltage Rating: 25V; Type: X7R
footprint chip_0805
pins: 1, 2

## CAP-00119
designator C?, comment 2.2uF
CAP, 2.2uF, 10%, 10V, X7R, 0805; Part Number: CAP-00119; Manufacturer: Murata; Manufacturer PN: GRM21BR71A225KA01L; Capacitance: 2.2uF; Tolerance: 10%; Voltage Rating: 10V; Type: X7R
footprint chip_0805
pins: 1, 2

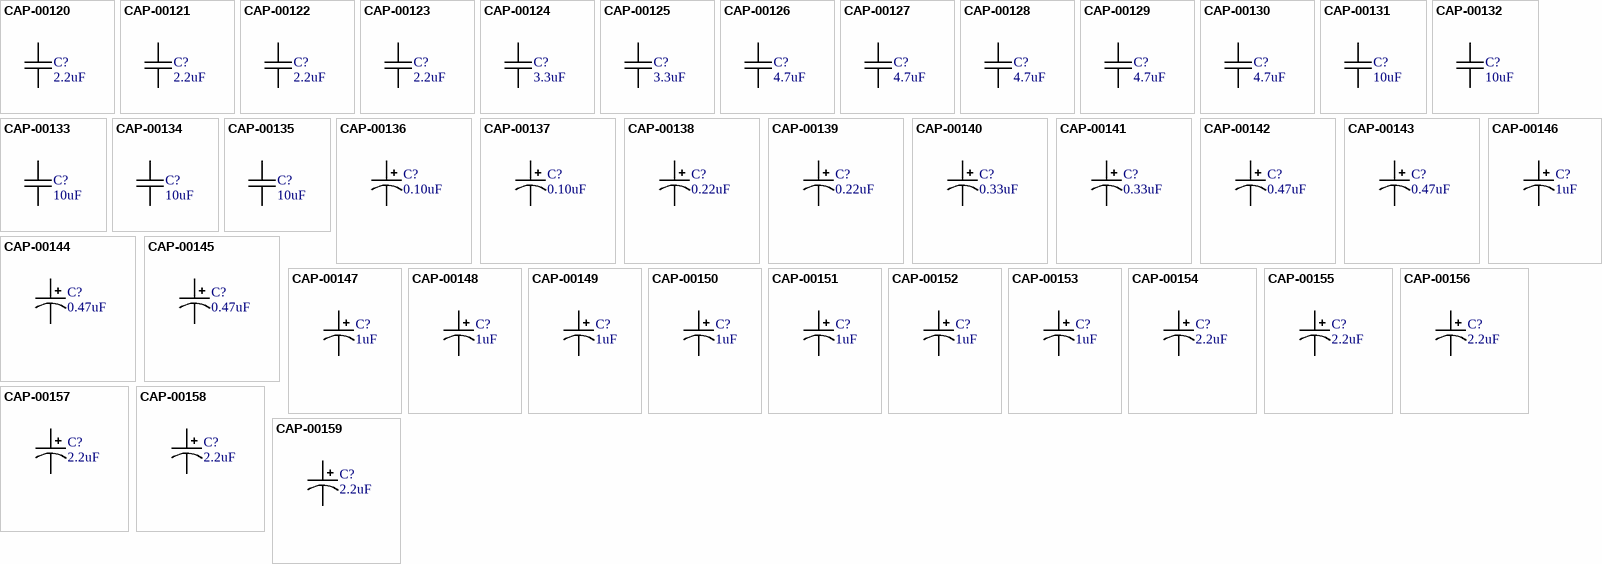
[diagram p3: symbols CAP-00120 to CAP-00159]

## CAP-00120
designator C?, comment 2.2uF
CAP, 2.2uF, 10%, 6.3V, X7R, 0805; Part Number: CAP-00120; Manufacturer: Murata; Manufacturer PN: GRM21BR70J225KA01L; Capacitance: 2.2uF; Tolerance: 10%; Voltage Rating: 6.3V; Type: X7R
footprint chip_0805
pins: 1, 2

## CAP-00121
designator C?, comment 2.2uF
CAP, 2.2uF, 10%, 16V, X7R, 0805; Part Number: CAP-00121; Manufacturer: Murata; Manufacturer PN: GRM21BR71C225KA12K; Capacitance: 2.2uF; Tolerance: 10%; Voltage Rating: 16V; Type: X7R
footprint chip_0805
pins: 1, 2

## CAP-00122
designator C?, comment 2.2uF
CAP, 2.2uF, 10%, 6.3V, X7R, 0805; Part Number: CAP-00122; Manufacturer: Murata; Manufacturer PN: GRM21BR70J225KA01K; Capacitance: 2.2uF; Tolerance: 10%; Voltage Rating: 6.3V; Type: X7R
footprint chip_0805
pins: 1, 2

## CAP-00123
designator C?, comment 2.2uF
CAP, 2.2uF, 10%, 10V, X7R, 0805; Part Number: CAP-00123; Manufacturer: Murata; Manufacturer PN: GRM21BR71A225KA01K; Capacitance: 2.2uF; Tolerance: 10%; Voltage Rating: 10V; Type: X7R
footprint chip_0805
pins: 1, 2

## CAP-00124
designator C?, comment 3.3uF
CAP, 3.3uF, 10%, 25V, X7R, 0805; Part Number: CAP-00124; Manufacturer: Murata; Manufacturer PN: GRM21BR71E335KA73L; Capacitance: 3.3uF; Tolerance: 10%; Voltage Rating: 25V; Type: X7R
footprint chip_0805
pins: 1, 2

## CAP-00125
designator C?, comment 3.3uF
CAP, 3.3uF, 10%, 10V, X7R, 0805; Part Number: CAP-00125; Manufacturer: Murata; Manufacturer PN: GRM21BR71A335KA99L; Capacitance: 3.3uF; Tolerance: 10%; Voltage Rating: 10V; Type: X7R
footprint chip_0805
pins: 1, 2

## CAP-00126
designator C?, comment 4.7uF
CAP, 4.7uF, 10%, 10V, X7R, 0805; Part Number: CAP-00126; Manufacturer: Murata; Manufacturer PN: GRM21BR71A475KA73K; Capacitance: 4.7uF; Tolerance: 10%; Voltage Rating: 10V; Type: X7R
footprint chip_0805
pins: 1, 2

## CAP-00127
designator C?, comment 4.7uF
CAP, 4.7uF, 10%, 16V, X7R, 0805; Part Number: CAP-00127; Manufacturer: Murata; Manufacturer PN: GRM21BR71C475KA73L; Capacitance: 4.7uF; Tolerance: 10%; Voltage Rating: 16V; Type: X7R
footprint chip_0805
pins: 1, 2

## CAP-00128
designator C?, comment 4.7uF
CAP, 4.7uF, 10%, 25V, X7R, 0805; Part Number: CAP-00128; Manufacturer: Murata; Manufacturer PN: GRM21BR71E475KA73L; Capacitance: 4.7uF; Tolerance: 10%; Voltage Rating: 25V; Type: X7R
footprint chip_0805
pins: 1, 2

## CAP-00129
designator C?, comment 4.7uF
CAP, 4.7uF, 10%, 10V, X7R, 0805; Part Number: CAP-00129; Manufacturer: Murata; Manufacturer PN: GRM21BR71A475KA73L; Capacitance: 4.7uF; Tolerance: 10%; Voltage Rating: 10V; Type: X7R
footprint chip_0805
pins: 1, 2

## CAP-00130
designator C?, comment 4.7uF
CAP, 4.7uF, 10%, 16V, X7R, 0805; Part Number: CAP-00130; Manufacturer: Murata; Manufacturer PN: GRM21BR71C475KA73K; Capacitance: 4.7uF; Tolerance: 10%; Voltage Rating: 16V; Type: X7R
footprint chip_0805
pins: 1, 2

## CAP-00131
designator C?, comment 10uF
CAP, 10uF, 10%, 10V, X7R, 0805; Part Number: CAP-00131; Manufacturer: Murata; Manufacturer PN: GRM21BR71A106KA73L; Capacitance: 10uF; Tolerance: 10%; Voltage Rating: 10V; Type: X7R
footprint chip_0805
pins: 1, 2

## CAP-00132
designator C?, comment 10uF
CAP, 10uF, 10%, 10V, X7R, 0805; Part Number: CAP-00132; Manufacturer: Murata; Manufacturer PN: GRM21BR71A106KE51K; Capacitance: 10uF; Tolerance: 10%; Voltage Rating: 10V; Type: X7R
footprint chip_0805
pins: 1, 2

## CAP-00133
designator C?, comment 10uF
CAP, 10uF, 10%, 10V, X7R, 0805; Part Number: CAP-00133; Manufacturer: Murata; Manufacturer PN: GRM21BR71A106KE51L; Capacitance: 10uF; Tolerance: 10%; Voltage Rating: 10V; Type: X7R
footprint chip_0805
pins: 1, 2

## CAP-00134
designator C?, comment 10uF
CAP, 10uF, 10%, 6.3V, X7R, 0805; Part Number: CAP-00134; Manufacturer: Murata; Manufacturer PN: GRM21BR70J106KE76L; Capacitance: 10uF; Tolerance: 10%; Voltage Rating: 6.3V; Type: X7R
footprint chip_0805
pins: 1, 2

## CAP-00135
designator C?, comment 10uF
CAP, 10uF, 10%, 6.3V, X7R, 0805; Part Number: CAP-00135; Manufacturer: Murata; Manufacturer PN: GRM21BR70J106KE76K; Capacitance: 10uF; Tolerance: 10%; Voltage Rating: 6.3V; Type: X7R
footprint chip_0805
pins: 1, 2

## CAP-00136
designator C?, comment 0.10uF
CAP, 0.10uF, 20%, 100V, Al, Radial/Can; Part Number: CAP-00136; Manufacturer: Nichicon; Manufacturer PN: UVR2A0R1MDD; Capacitance: 0.10uF; Tolerance: 20%; Voltage Rating: 100V; Type: Al
footprint can_2_0
pins: 1, 2

## CAP-00137
designator C?, comment 0.10uF
CAP, 0.10uF, 20%, 50V, Al, Radial/Can; Part Number: CAP-00137; Manufacturer: Nichicon; Manufacturer PN: UVR1H0R1MDD; Capacitance: 0.10uF; Tolerance: 20%; Voltage Rating: 50V; Type: Al
footprint can_2_0
pins: 1, 2

## CAP-00138
designator C?, comment 0.22uF
CAP, 0.22uF, 20%, 50V, Al, Radial/Can; Part Number: CAP-00138; Manufacturer: Nichicon; Manufacturer PN: UVR1HR22MDD; Capacitance: 0.22uF; Tolerance: 20%; Voltage Rating: 50V; Type: Al
footprint can_2_0
pins: 1, 2

## CAP-00139
designator C?, comment 0.22uF
CAP, 0.22uF, 20%, 100V, Al, Radial/Can; Part Number: CAP-00139; Manufacturer: Nichicon; Manufacturer PN: UVR2AR22MDD; Capacitance: 0.22uF; Tolerance: 20%; Voltage Rating: 100V; Type: Al
footprint can_2_0
pins: 1, 2

## CAP-00140
designator C?, comment 0.33uF
CAP, 0.33uF, 20%, 50V, Al, Radial/Can; Part Number: CAP-00140; Manufacturer: Nichicon; Manufacturer PN: UVR1HR33MDD; Capacitance: 0.33uF; Tolerance: 20%; Voltage Rating: 50V; Type: Al
footprint can_2_0
pins: 1, 2

## CAP-00141
designator C?, comment 0.33uF
CAP, 0.33uF, 20%, 100V, Al, Radial/Can; Part Number: CAP-00141; Manufacturer: Nichicon; Manufacturer PN: UVR2AR33MDD; Capacitance: 0.33uF; Tolerance: 20%; Voltage Rating: 100V; Type: Al
footprint can_2_0
pins: 1, 2

## CAP-00142
designator C?, comment 0.47uF
CAP, 0.47uF, 20%, 50V, Al, Radial/Can; Part Number: CAP-00142; Manufacturer: Nichicon; Manufacturer PN: UVR1HR47MDD; Capacitance: 0.47uF; Tolerance: 20%; Voltage Rating: 50V; Type: Al
footprint can_2_0
pins: 1, 2

## CAP-00143
designator C?, comment 0.47uF
CAP, 0.47uF, 20%, 100V, Al, Radial/Can; Part Number: CAP-00143; Manufacturer: Nichicon; Manufacturer PN: UVR2AR47MDD; Capacitance: 0.47uF; Tolerance: 20%; Voltage Rating: 100V; Type: Al
footprint can_2_0
pins: 1, 2

## CAP-00144
designator C?, comment 0.47uF
CAP, 0.47uF, 20%, 250V, Al, Radial/Can; Part Number: CAP-00144; Manufacturer: Nichicon; Manufacturer PN: UVR2ER47MED; Capacitance: 0.47uF; Tolerance: 20%; Voltage Rating: 250V; Type: Al
footprint can_2.5_0
pins: 1, 2

## CAP-00145
designator C?, comment 0.47uF
CAP, 0.47uF, 20%, 200V, Al, Radial/Can; Part Number: CAP-00145; Manufacturer: Nichicon; Manufacturer PN: UVR2DR47MED; Capacitance: 0.47uF; Tolerance: 20%; Voltage Rating: 200V; Type: Al
footprint can_2.5_0
pins: 1, 2

## CAP-00146
designator C?, comment 1uF
CAP, 1uF, 20%, 160V, Al, Radial/Can; Part Number: CAP-00146; Manufacturer: Nichicon; Manufacturer PN: UVR2C010MED; Capacitance: 1uF; Tolerance: 20%; Voltage Rating: 160V; Type: Al
footprint can_2.5_0
pins: 1, 2

## CAP-00147
designator C?, comment 1uF
CAP, 1uF, 20%, 50V, Al, Radial/Can; Part Number: CAP-00147; Manufacturer: Nichicon; Manufacturer PN: UVR1H010MDD; Capacitance: 1uF; Tolerance: 20%; Voltage Rating: 50V; Type: Al
footprint can_2_0
pins: 1, 2

## CAP-00148
designator C?, comment 1uF
CAP, 1uF, 20%, 250V, Al, Radial/Can; Part Number: CAP-00148; Manufacturer: Nichicon; Manufacturer PN: UVR2E010MED; Capacitance: 1uF; Tolerance: 20%; Voltage Rating: 250V; Type: Al
footprint can_2.5_0
pins: 1, 2

## CAP-00149
designator C?, comment 1uF
CAP, 1uF, 20%, 450V, Al, Radial/Can; Part Number: CAP-00149; Manufacturer: Nichicon; Manufacturer PN: UVR2W010MPD; Capacitance: 1uF; Tolerance: 20%; Voltage Rating: 450V; Type: Al
footprint can_3.5_0
pins: 1, 2

## CAP-00150
designator C?, comment 1uF
CAP, 1uF, 20%, 200V, Al, Radial/Can; Part Number: CAP-00150; Manufacturer: Nichicon; Manufacturer PN: UVR2D010MED; Capacitance: 1uF; Tolerance: 20%; Voltage Rating: 200V; Type: Al
footprint can_2.5_0
pins: 1, 2

## CAP-00151
designator C?, comment 1uF
CAP, 1uF, 20%, 400V, Al, Radial/Can; Part Number: CAP-00151; Manufacturer: Nichicon; Manufacturer PN: UVR2G010MPD; Capacitance: 1uF; Tolerance: 20%; Voltage Rating: 400V; Type: Al
footprint can_3.5_0
pins: 1, 2

## CAP-00152
designator C?, comment 1uF
CAP, 1uF, 20%, 350V, Al, Radial/Can; Part Number: CAP-00152; Manufacturer: Nichicon; Manufacturer PN: UVR2V010MED; Capacitance: 1uF; Tolerance: 20%; Voltage Rating: 350V; Type: Al
footprint can_2.5_0
pins: 1, 2

## CAP-00153
designator C?, comment 1uF
CAP, 1uF, 20%, 100V, Al, Radial/Can; Part Number: CAP-00153; Manufacturer: Nichicon; Manufacturer PN: UVR2A010MDD; Capacitance: 1uF; Tolerance: 20%; Voltage Rating: 100V; Type: Al
footprint can_2_0
pins: 1, 2

## CAP-00154
designator C?, comment 2.2uF
CAP, 2.2uF, 20%, 250V, Al, Radial/Can; Part Number: CAP-00154; Manufacturer: Nichicon; Manufacturer PN: UVR2E2R2MED; Capacitance: 2.2uF; Tolerance: 20%; Voltage Rating: 250V; Type: Al
footprint can_2.5_0
pins: 1, 2

## CAP-00155
designator C?, comment 2.2uF
CAP, 2.2uF, 20%, 160V, Al, Radial/Can; Part Number: CAP-00155; Manufacturer: Nichicon; Manufacturer PN: UVR2C2R2MED; Capacitance: 2.2uF; Tolerance: 20%; Voltage Rating: 160V; Type: Al
footprint can_2.5_0
pins: 1, 2

## CAP-00156
designator C?, comment 2.2uF
CAP, 2.2uF, 20%, 400V, Al, Radial/Can; Part Number: CAP-00156; Manufacturer: Nichicon; Manufacturer PN: UVR2G2R2MPD; Capacitance: 2.2uF; Tolerance: 20%; Voltage Rating: 400V; Type: Al
footprint can_5_0
pins: 1, 2

## CAP-00157
designator C?, comment 2.2uF
CAP, 2.2uF, 20%, 450V, Al, Radial/Can; Part Number: CAP-00157; Manufacturer: Nichicon; Manufacturer PN: UVR2W2R2MPD; Capacitance: 2.2uF; Tolerance: 20%; Voltage Rating: 450V; Type: Al
footprint can_5_0
pins: 1, 2

## CAP-00158
designator C?, comment 2.2uF
CAP, 2.2uF, 20%, 200V, Al, Radial/Can; Part Number: CAP-00158; Manufacturer: Nichicon; Manufacturer PN: UVR2D2R2MED; Capacitance: 2.2uF; Tolerance: 20%; Voltage Rating: 200V; Type: Al
footprint can_2.5_0
pins: 1, 2

## CAP-00159
designator C?, comment 2.2uF
CAP, 2.2uF, 20%, 100V, Al, Radial/Can; Part Number: CAP-00159; Manufacturer: Nichicon; Manufacturer PN: UVR2A2R2MDD; Capacitance: 2.2uF; Tolerance: 20%; Voltage Rating: 100V; Type: Al
footprint can_2_0
pins: 1, 2

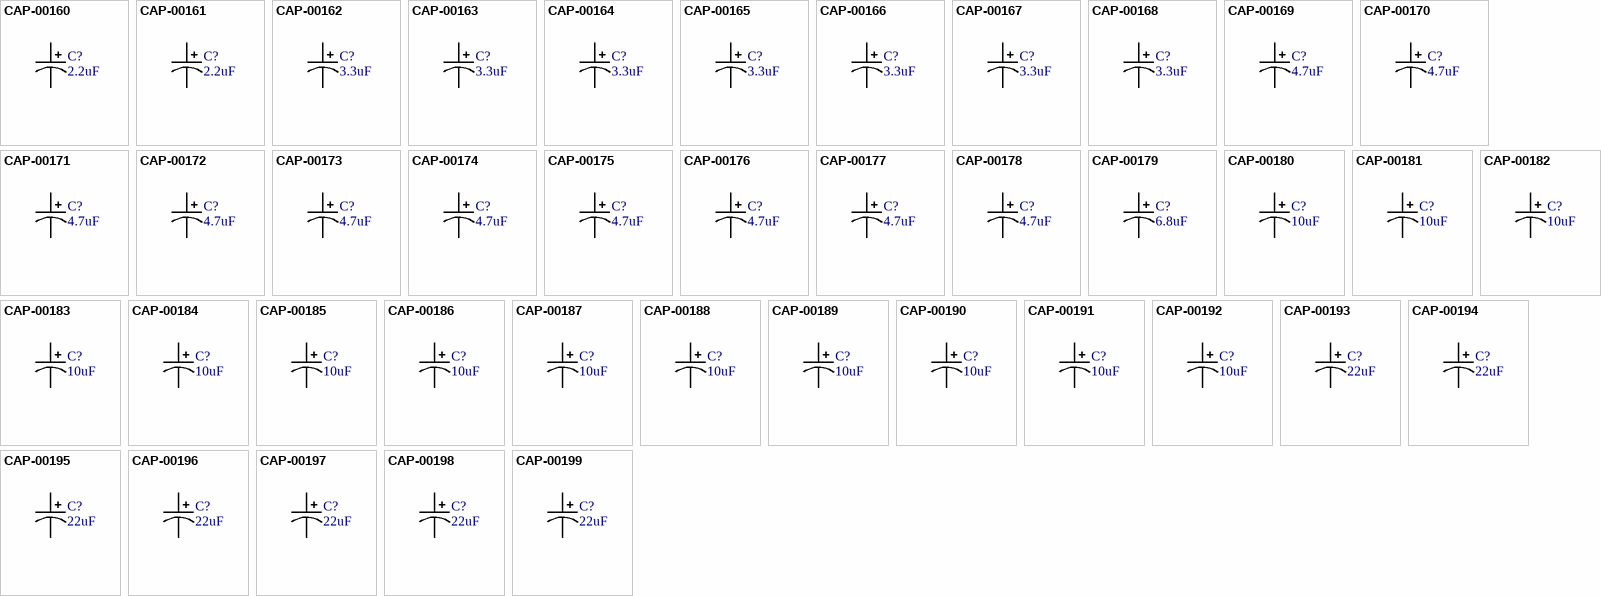
[diagram p4: symbols CAP-00160 to CAP-00199]

## CAP-00160
designator C?, comment 2.2uF
CAP, 2.2uF, 20%, 350V, Al, Radial/Can; Part Number: CAP-00160; Manufacturer: Nichicon; Manufacturer PN: UVR2V2R2MPD; Capacitance: 2.2uF; Tolerance: 20%; Voltage Rating: 350V; Type: Al
footprint can_3.5_0
pins: 1, 2

## CAP-00161
designator C?, comment 2.2uF
CAP, 2.2uF, 20%, 315V, Al, Radial/Can; Part Number: CAP-00161; Manufacturer: Nichicon; Manufacturer PN: UVR2F2R2MPD; Capacitance: 2.2uF; Tolerance: 20%; Voltage Rating: 315V; Type: Al
footprint can_3.5_0
pins: 1, 2

## CAP-00162
designator C?, comment 3.3uF
CAP, 3.3uF, 20%, 50V, Al, Radial/Can; Part Number: CAP-00162; Manufacturer: Nichicon; Manufacturer PN: UVR1H3R3MDD; Capacitance: 3.3uF; Tolerance: 20%; Voltage Rating: 50V; Type: Al
footprint can_2_0
pins: 1, 2

## CAP-00163
designator C?, comment 3.3uF
CAP, 3.3uF, 20%, 450V, Al, Radial/Can; Part Number: CAP-00163; Manufacturer: Nichicon; Manufacturer PN: UVR2W3R3MPD; Capacitance: 3.3uF; Tolerance: 20%; Voltage Rating: 450V; Type: Al
footprint can_5_0
pins: 1, 2

## CAP-00164
designator C?, comment 3.3uF
CAP, 3.3uF, 20%, 400V, Al, Radial/Can; Part Number: CAP-00164; Manufacturer: Nichicon; Manufacturer PN: UVR2G3R3MPD; Capacitance: 3.3uF; Tolerance: 20%; Voltage Rating: 400V; Type: Al
footprint can_5_0
pins: 1, 2

## CAP-00165
designator C?, comment 3.3uF
CAP, 3.3uF, 20%, 100V, Al, Radial/Can; Part Number: CAP-00165; Manufacturer: Nichicon; Manufacturer PN: UVR2A3R3MDD; Capacitance: 3.3uF; Tolerance: 20%; Voltage Rating: 100V; Type: Al
footprint can_2_0
pins: 1, 2

## CAP-00166
designator C?, comment 3.3uF
CAP, 3.3uF, 20%, 250V, Al, Radial/Can; Part Number: CAP-00166; Manufacturer: Nichicon; Manufacturer PN: UVR2E3R3MPD; Capacitance: 3.3uF; Tolerance: 20%; Voltage Rating: 250V; Type: Al
footprint can_3.5_0
pins: 1, 2

## CAP-00167
designator C?, comment 3.3uF
CAP, 3.3uF, 20%, 200V, Al, Radial/Can; Part Number: CAP-00167; Manufacturer: Nichicon; Manufacturer PN: UVR2D3R3MED; Capacitance: 3.3uF; Tolerance: 20%; Voltage Rating: 200V; Type: Al
footprint can_2.5_0
pins: 1, 2

## CAP-00168
designator C?, comment 3.3uF
CAP, 3.3uF, 20%, 350V, Al, Radial/Can; Part Number: CAP-00168; Manufacturer: Nichicon; Manufacturer PN: UVR2V3R3MPD; Capacitance: 3.3uF; Tolerance: 20%; Voltage Rating: 350V; Type: Al
footprint can_5_0
pins: 1, 2

## CAP-00169
designator C?, comment 4.7uF
CAP, 4.7uF, 20%, 25V, Al, Radial/Can; Part Number: CAP-00169; Manufacturer: Nichicon; Manufacturer PN: UVR1E4R7MDD; Capacitance: 4.7uF; Tolerance: 20%; Voltage Rating: 25V; Type: Al
footprint can_2_0
pins: 1, 2

## CAP-00170
designator C?, comment 4.7uF
CAP, 4.7uF, 20%, 50V, Al, Radial/Can; Part Number: CAP-00170; Manufacturer: Nichicon; Manufacturer PN: UVR1H4R7MDD; Capacitance: 4.7uF; Tolerance: 20%; Voltage Rating: 50V; Type: Al
footprint can_2_0
pins: 1, 2

## CAP-00171
designator C?, comment 4.7uF
CAP, 4.7uF, 20%, 400V, Al, Radial/Can; Part Number: CAP-00171; Manufacturer: Nichicon; Manufacturer PN: UVR2G4R7MPD; Capacitance: 4.7uF; Tolerance: 20%; Voltage Rating: 400V; Type: Al
footprint can_5_0
pins: 1, 2

## CAP-00172
designator C?, comment 4.7uF
CAP, 4.7uF, 20%, 450V, Al, Radial/Can; Part Number: CAP-00172; Manufacturer: Nichicon; Manufacturer PN: UVR2W4R7MPD; Capacitance: 4.7uF; Tolerance: 20%; Voltage Rating: 450V; Type: Al
footprint can_5_0
pins: 1, 2

## CAP-00173
designator C?, comment 4.7uF
CAP, 4.7uF, 20%, 35V, Al, Radial/Can; Part Number: CAP-00173; Manufacturer: Nichicon; Manufacturer PN: UVR1V4R7MDD; Capacitance: 4.7uF; Tolerance: 20%; Voltage Rating: 35V; Type: Al
footprint can_2_0
pins: 1, 2

## CAP-00174
designator C?, comment 4.7uF
CAP, 4.7uF, 20%, 200V, Al, Radial/Can; Part Number: CAP-00174; Manufacturer: Nichicon; Manufacturer PN: UVR2D4R7MPD; Capacitance: 4.7uF; Tolerance: 20%; Voltage Rating: 200V; Type: Al
footprint can_3.5_0
pins: 1, 2

## CAP-00175
designator C?, comment 4.7uF
CAP, 4.7uF, 20%, 250V, Al, Radial/Can; Part Number: CAP-00175; Manufacturer: Nichicon; Manufacturer PN: UVR2E4R7MPD; Capacitance: 4.7uF; Tolerance: 20%; Voltage Rating: 250V; Type: Al
footprint can_3.5_0
pins: 1, 2

## CAP-00176
designator C?, comment 4.7uF
CAP, 4.7uF, 20%, 315V, Al, Radial/Can; Part Number: CAP-00176; Manufacturer: Nichicon; Manufacturer PN: UVR2F4R7MPD; Capacitance: 4.7uF; Tolerance: 20%; Voltage Rating: 315V; Type: Al
footprint can_5_0
pins: 1, 2

## CAP-00177
designator C?, comment 4.7uF
CAP, 4.7uF, 20%, 350V, Al, Radial/Can; Part Number: CAP-00177; Manufacturer: Nichicon; Manufacturer PN: UVR2V4R7MPD; Capacitance: 4.7uF; Tolerance: 20%; Voltage Rating: 350V; Type: Al
footprint can_5_0
pins: 1, 2

## CAP-00178
designator C?, comment 4.7uF
CAP, 4.7uF, 20%, 100V, Al, Radial/Can; Part Number: CAP-00178; Manufacturer: Nichicon; Manufacturer PN: UVR2A4R7MDD; Capacitance: 4.7uF; Tolerance: 20%; Voltage Rating: 100V; Type: Al
footprint can_2_0
pins: 1, 2

## CAP-00179
designator C?, comment 6.8uF
CAP, 6.8uF, 20%, 50V, Al, Radial/Can; Part Number: CAP-00179; Manufacturer: Nichicon; Manufacturer PN: UVR1H6R8MDD; Capacitance: 6.8uF; Tolerance: 20%; Voltage Rating: 50V; Type: Al
footprint can_2_0
pins: 1, 2

## CAP-00180
designator C?, comment 10uF
CAP, 10uF, 20%, 100V, Al, Radial/Can; Part Number: CAP-00180; Manufacturer: Nichicon; Manufacturer PN: UVR2A100MED; Capacitance: 10uF; Tolerance: 20%; Voltage Rating: 100V; Type: Al
footprint can_2.5_0
pins: 1, 2

## CAP-00181
designator C?, comment 10uF
CAP, 10uF, 20%, 50V, Al, Radial/Can; Part Number: CAP-00181; Manufacturer: Nichicon; Manufacturer PN: UVR1H100MDD; Capacitance: 10uF; Tolerance: 20%; Voltage Rating: 50V; Type: Al
footprint can_2_0
pins: 1, 2

## CAP-00182
designator C?, comment 10uF
CAP, 10uF, 20%, 35V, Al, Radial/Can; Part Number: CAP-00182; Manufacturer: Nichicon; Manufacturer PN: UVR1V100MDD; Capacitance: 10uF; Tolerance: 20%; Voltage Rating: 35V; Type: Al
footprint can_2_0
pins: 1, 2

## CAP-00183
designator C?, comment 10uF
CAP, 10uF, 20%, 25V, Al, Radial/Can; Part Number: CAP-00183; Manufacturer: Nichicon; Manufacturer PN: UVR1E100MDD; Capacitance: 10uF; Tolerance: 20%; Voltage Rating: 25V; Type: Al
footprint can_2_0
pins: 1, 2

## CAP-00184
designator C?, comment 10uF
CAP, 10uF, 20%, 16V, Al, Radial/Can; Part Number: CAP-00184; Manufacturer: Nichicon; Manufacturer PN: UVR1C100MDD; Capacitance: 10uF; Tolerance: 20%; Voltage Rating: 16V; Type: Al
footprint can_2_0
pins: 1, 2

## CAP-00185
designator C?, comment 10uF
CAP, 10uF, 20%, 160V, Al, Radial/Can; Part Number: CAP-00185; Manufacturer: Nichicon; Manufacturer PN: UVR2C100MPD; Capacitance: 10uF; Tolerance: 20%; Voltage Rating: 160V; Type: Al
footprint can_3.5_0
pins: 1, 2

## CAP-00186
designator C?, comment 10uF
CAP, 10uF, 20%, 250V, Al, Radial/Can; Part Number: CAP-00186; Manufacturer: Nichicon; Manufacturer PN: UVR2E100MPD; Capacitance: 10uF; Tolerance: 20%; Voltage Rating: 250V; Type: Al
footprint can_5_0
pins: 1, 2

## CAP-00187
designator C?, comment 10uF
CAP, 10uF, 20%, 450V, Al, Radial/Can; Part Number: CAP-00187; Manufacturer: Nichicon; Manufacturer PN: UVR2W100MHD; Capacitance: 10uF; Tolerance: 20%; Voltage Rating: 450V; Type: Al
footprint can_5_1
pins: 1, 2

## CAP-00188
designator C?, comment 10uF
CAP, 10uF, 20%, 400V, Al, Radial/Can; Part Number: CAP-00188; Manufacturer: Nichicon; Manufacturer PN: UVR2G100MHD; Capacitance: 10uF; Tolerance: 20%; Voltage Rating: 400V; Type: Al
footprint can_5_1
pins: 1, 2

## CAP-00189
designator C?, comment 10uF
CAP, 10uF, 20%, 63V, Al, Radial/Can; Part Number: CAP-00189; Manufacturer: Nichicon; Manufacturer PN: UVR1J100MDD; Capacitance: 10uF; Tolerance: 20%; Voltage Rating: 63V; Type: Al
footprint can_2_0
pins: 1, 2

## CAP-00190
designator C?, comment 10uF
CAP, 10uF, 20%, 200V, Al, Radial/Can; Part Number: CAP-00190; Manufacturer: Nichicon; Manufacturer PN: UVR2D100MPD; Capacitance: 10uF; Tolerance: 20%; Voltage Rating: 200V; Type: Al
footprint can_5_0
pins: 1, 2